# Altium footprint library DF134-4P SMT R_A.PcbLib: 1 footprints
Each footprint in its own frame and in the unit in brackets; x right, y up, seen from the top. Pads: shape width x height; smd on the part's side, far side on the other; paste and mask are expansions set on the pad; w line width, h text height; cw(c..) or ccw(c..) is an arc to the next point about the centre after c.
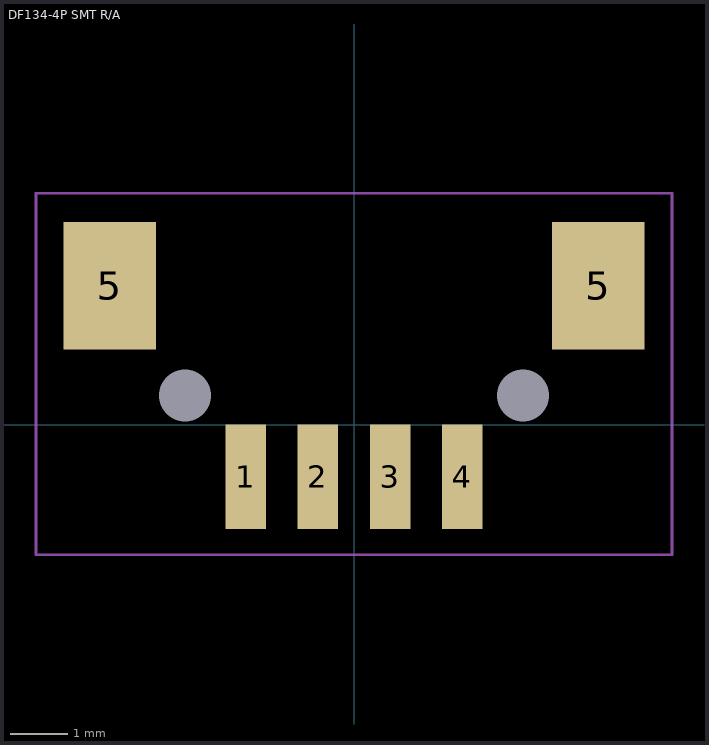
[diagram p0: the footprint, top view; thin cyan lines are the x and y axes]

## DF134-4P SMT R/A [mm] "CONN HEADER 4POS 1.25MM R/A TIN"
pads (8):
  rect 0.7x1.8 smd: 1(-1.875,-0.9) 2(-0.625,-0.9) 3(0.625,-0.9) 4(1.875,-0.9)
  rect 1.6x2.2 smd: 5(-4.225,2.4) 5(4.225,2.4)
  round 0 hole 0.9: ""(-2.925,0.5) ""(2.925,0.5)
Top Courtyard:
  lines w0.05: -5.5,-2.25 -5.5,4 5.5,4 5.5,-2.25 -5.5,-2.25